# Altium footprint library Lumberg.PcbLib: 1 footprints
Each footprint in its own frame and in the unit in brackets; x right, y up, seen from the top. Pads: shape width x height; smd on the part's side, far side on the other; paste and mask are expansions set on the pad; w line width, h text height; cw(c..) or ccw(c..) is an arc to the next point about the centre after c.
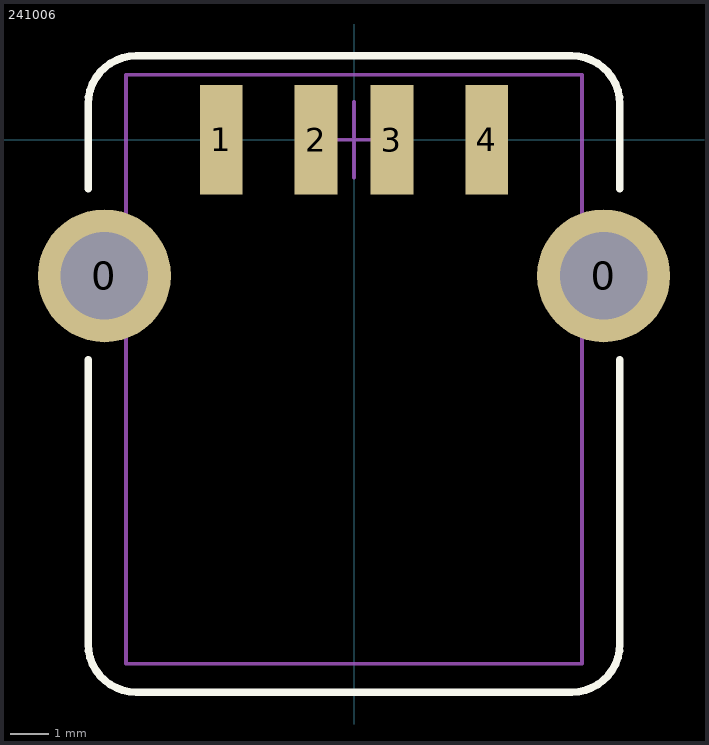
[diagram p0: the footprint, top view; thin cyan lines are the x and y axes]

## 241006 [mm] "USB Jack Type A, horizontal"
pads (6):
  round 3.5 hole 2.3: 0(-6.57,-3.58) 0(6.57,-3.58)
  rect 1.12x2.88 smd: 1(-3.5,0) 2(-1,0) 3(1,0) 4(3.5,0)
Top Overlay:
  lines w0.2: -7,-5.79 -7,-13.27 ccw(c-5.73,-13.27) -5.73,-14.54 5.73,-14.54 ccw(c5.73,-13.27) 7,-13.27 7,-5.79 ; -7,-1.29 -7,0.94 cw(c-5.73,0.94) -5.73,2.21 4,2.21 5.73,2.21 cw(c5.73,0.94) 7,0.94 7,-1.29
Mechanical 13:
  lines w0.1: -6,-13.79 6,-13.79 6,1.21 6,1.71 -6,1.71 -6,-13.79
Mechanical 15:
  lines w0.1: -1,0 1,0 ; 0,-1 0,1
3D body "lumberg_2410_06.stp": height 7.76, standoff -3.81, extent -13.95,-21.2 13.85,6.6